# Altium footprint library AB5301A.PcbLib: 18 footprints (part 1 of 2)
Each footprint in its own frame and in the unit in brackets; x right, y up, seen from the top. Pads: shape width x height; smd on the part's side, far side on the other; paste and mask are expansions set on the pad; w line width, h text height; cw(c..) or ccw(c..) is an arc to the next point about the centre after c.
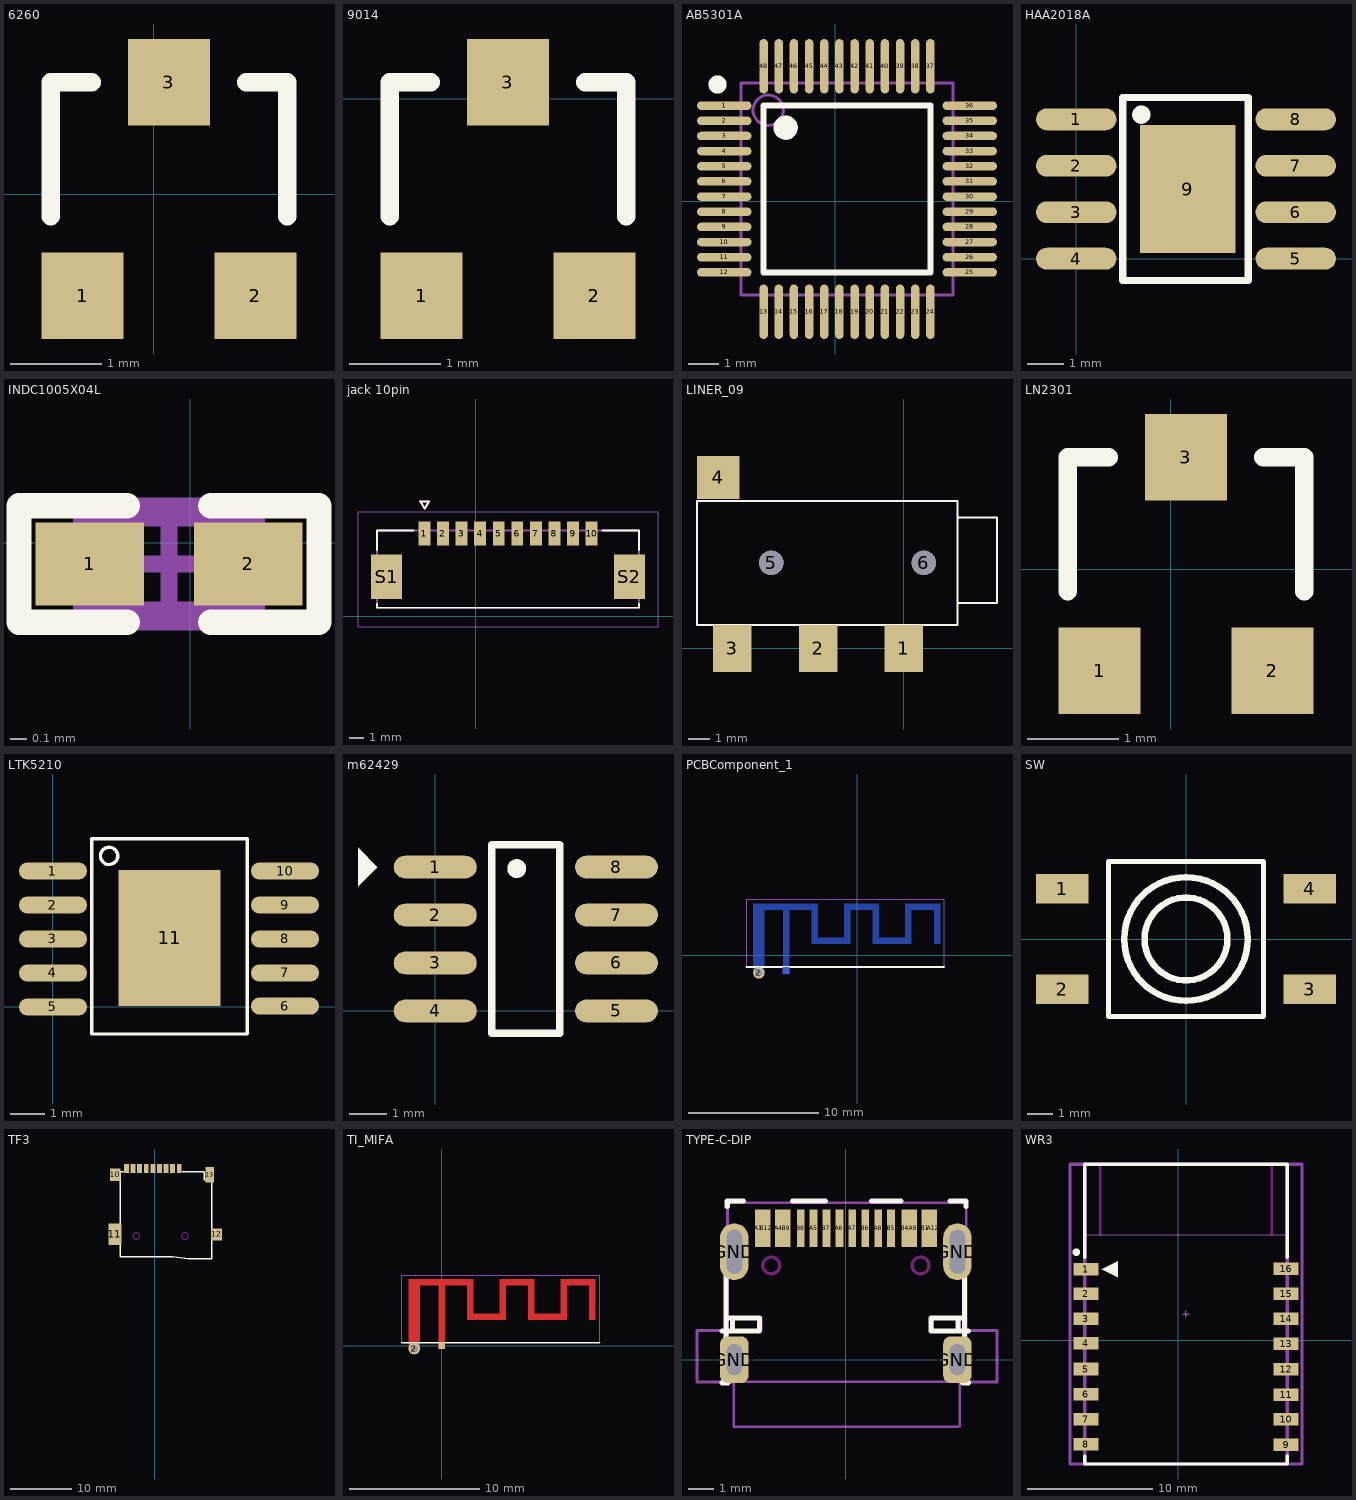
[diagram p0: the footprints below, top view; thin cyan lines are the x and y axes]

## 6260 [mm]
pads (3):
  rect 0.9x0.95 smd: 1(-0.781,-1.12) 2(1.119,-1.12) 3(0.169,1.23)
Top Overlay:
  lines w0.2: -1.131,-0.245 -1.131,1.23 -0.681,1.23 ; 1.019,1.23 1.469,1.23 1.469,-0.245
3D body "SW3DPS-SOT-23-DEFAULT.step": height 1.08, standoff -0.02, extent -1.331,-1.195 1.669,1.305

## 9014 [mm]
pads (3):
  rect 0.9x0.95 smd: 1(-3.261,-2.166) 2(-1.361,-2.166) 3(-2.311,0.184)
Top Overlay:
  lines w0.2: -3.611,-1.291 -3.611,0.184 -3.161,0.184 ; -1.461,0.184 -1.011,0.184 -1.011,-1.291
3D body "SW3DPS-SOT-23-DEFAULT.step": height 1.08, standoff -0.02, extent -3.811,-2.241 -0.811,0.259

## AB5301A [mm]
pads (48):
  oval 1.8x0.28 smd: 1(-3.664,3.156) 2(-3.664,2.656) 3(-3.664,2.156) 4(-3.664,1.656) 5(-3.664,1.156) 6(-3.664,0.656) 7(-3.664,0.156) 8(-3.664,-0.344) 9(-3.664,-0.844) 10(-3.664,-1.344) 11(-3.664,-1.844) 12(-3.664,-2.344) 25(4.436,-2.344) 26(4.436,-1.844) 27(4.436,-1.344) 28(4.436,-0.844) 29(4.436,-0.344) 30(4.436,0.156) 31(4.436,0.656) 32(4.436,1.156) 33(4.436,1.656) 34(4.436,2.156) 35(4.436,2.656) 36(4.436,3.156)
  oval 0.28x1.8 smd: 13(-2.364,-3.644) 14(-1.864,-3.644) 15(-1.364,-3.644) 16(-0.864,-3.644) 17(-0.364,-3.644) 18(0.136,-3.644) 19(0.636,-3.644) 20(1.136,-3.644) 21(1.636,-3.644) 22(2.136,-3.644) 23(2.636,-3.644) 24(3.136,-3.644) 37(3.136,4.456) 38(2.636,4.456) 39(2.136,4.456) 40(1.636,4.456) 41(1.136,4.456) 42(0.636,4.456) 43(0.136,4.456) 44(-0.364,4.456) 45(-0.864,4.456) 46(-1.364,4.456) 47(-1.864,4.456) 48(-2.364,4.456)
Top Overlay:
  circle w0.3: c-3.889,3.856 r0.15
  circle w0.4: c-1.639,2.431 r0.2
  lines w0.2: -2.364,-2.344 -2.364,3.156 3.136,3.156 3.136,-2.344 -2.364,-2.344
Mechanical 13:
  circle w0.1: c-2.214,3.006 r0.5
  lines w0.1: -3.114,-3.094 -3.114,3.906 3.886,3.906 3.886,-3.094 -3.114,-3.094
3D body "User Library-TQFP48.STEP": height 1.1, standoff 0, extent -4.09,-4.091 4.928,4.926

## HAA2018A [mm]
pads (9):
  oval 2.2x0.6 smd: 1(0,3.81) 2(0,2.54) 3(0,1.27) 4(0,0) 5(6,0) 6(6,1.27) 7(6,2.54) 8(6,3.81)
  rect 2.6x3.5 smd: 9(3.048,1.905)
Top Overlay:
  circle w0.25: c1.778,3.937 r0.125
  lines w0.2: 1.27,-0.595 4.699,-0.595 4.699,4.405 1.27,4.405 1.27,-0.595
3D body "User Library-SOIC-8.STEP": height 1.75, standoff 0, extent -0.085,-0.595 5.927,4.405

## INDC1005X04L [mm]
pads (2):
  rect 0.65x0.5 smd: 1(-0.602,-0.127) 2(0.348,-0.127)
Top Overlay:
  lines w0.152: -0.377,-0.477 -1.027,-0.477 -1.027,0.223 -0.377,0.223 ; 0.123,-0.477 0.773,-0.477 0.773,0.223 0.123,0.223
Mechanical 13:
  lines w0.1: -0.652,-0.402 -0.652,0.148 0.398,0.148 0.398,-0.402 -0.652,-0.402
Mechanical 15:
  lines w0.1: -0.402,-0.127 0.148,-0.127 ; -0.127,-0.402 -0.127,0.148 ; -1.027,-0.477 -1.027,0.223 0.773,0.223 0.773,-0.477 -1.027,-0.477
3D body "User Library-Chip Inductor 0402.step": height 0.5, standoff 0, extent -0.627,-0.427 0.373,0.173

## jack 10pin [mm]
pads (12):
  rect 0.8x1.6 smd mask+0: 1(-3.466,5.575) 2(-2.216,5.575) 3(-0.966,5.575) 4(0.284,5.575) 5(1.534,5.575) 6(2.784,5.575) 7(4.034,5.575) 8(5.284,5.575) 9(6.534,5.575) 10(7.784,5.575)
  rect 2.1x3 smd mask+0: S1(-6.016,2.675) S2(10.334,2.675)
Top Overlay:
  lines w0.127: -6.666,0.825 -6.666,0.575 10.984,0.575 10.984,0.825 ; -6.666,4.475 -6.666,5.775 -4.186,5.775 ; 8.504,5.775 10.984,5.775 10.984,4.475 ; -3.754,7.74 -3.154,7.74 -3.454,7.24 -3.754,7.74
Top Solder:
  region: -2.99,4.699 -3.942,4.699 -3.942,6.451 -2.99,6.451
  region: 11.46,1.099 9.208,1.099 9.208,4.251 11.46,4.251
  region: -4.89,1.099 -7.142,1.099 -7.142,4.251 -4.89,4.251
  region: -1.74,4.699 -2.692,4.699 -2.692,6.451 -1.74,6.451
  region: -0.49,4.699 -1.442,4.699 -1.442,6.451 -0.49,6.451
  region: 0.76,4.699 -0.192,4.699 -0.192,6.451 0.76,6.451
  region: 2.01,4.699 1.058,4.699 1.058,6.451 2.01,6.451
  region: 3.26,4.699 2.308,4.699 2.308,6.451 3.26,6.451
  region: 4.51,4.699 3.558,4.699 3.558,6.451 4.51,6.451
  region: 5.76,4.699 4.808,4.699 4.808,6.451 5.76,6.451
  region: 7.01,4.699 6.058,4.699 6.058,6.451 7.01,6.451
  region: 8.26,4.699 7.308,4.699 7.308,6.451 8.26,6.451
Mechanical 13:
  lines w0.127: -6.666,0.575 10.984,0.575 10.984,5.775 -6.666,5.775 -6.666,0.575 ; -3.754,7.74 -3.154,7.74 -3.454,7.24 -3.754,7.74
Mechanical 15:
  lines w0.05: -7.936,-0.695 12.254,-0.695 12.254,7.045 -7.936,7.045 -7.936,-0.695
3D body "532611071--3DModel-STEP-361473.STEP": height 3.4, standoff 0, extent -6.666,0.803 10.984,6.003

## LINER_09 [mm]
height 1.6
pads (6):
  rect 1.8x2.2 smd: 1(0,0) 2(-4,0) 3(-8.025,0)
  rect 2x2 smd: 4(-8.675,8)
  round 1.143 hole 1.143: 5(-6.2,4) 6(0.95,4)
Top Overlay:
  lines w0.1: 2.542,2.116 4.371,2.116 4.371,6.129 2.542,6.129 ; -9.675,1.1 -9.675,6.9 2.525,6.9 2.525,1.1 -9.675,1.1

## LN2301 [mm]
pads (3):
  rect 0.9x0.95 smd: 1(-0.781,-1.12) 2(1.119,-1.12) 3(0.169,1.23)
Top Overlay:
  lines w0.2: -1.131,-0.245 -1.131,1.23 -0.681,1.23 ; 1.019,1.23 1.469,1.23 1.469,-0.245
3D body "SW3DPS-SOT-23-DEFAULT.step": height 1.08, standoff -0.02, extent -1.331,-1.195 1.669,1.305

## LTK5210 [mm]
pads (11):
  oval 2x0.5 smd: 1(0,4) 2(0,3) 3(0,2) 4(0,1) 5(0,0) 6(6.826,0.025) 7(6.826,1) 8(6.826,2) 9(6.826,3) 10(6.826,4)
  rect 3x4 smd: 11(3.429,2.032)
Top Overlay:
  circle w0.1: c1.651,4.445 r0.254
  lines w0.1: 1.143,-0.794 5.715,-0.794 5.715,4.953 1.143,4.953 1.143,-0.794

## m62429 [mm]
pads (8):
  oval 2.2x0.6 smd: 1(0,3.81) 2(0,2.54) 3(0,1.27) 4(0,0) 5(4.8,0) 6(4.8,1.27) 7(4.8,2.54) 8(4.8,3.81)
Top Overlay:
  circle w0.25: c2.159,3.771 r0.125
  region: -2.045,3.302 -1.537,3.81 -2.045,4.318
  lines w0.2: 1.5,-0.595 1.5,4.405 3.3,4.405 3.3,-0.595 1.5,-0.595
3D body "User Library-SOIC-8.STEP": height 1.75, standoff 0, extent -0.53,-0.606 5.482,4.394

## PCBComponent_1 [mil]
pads (2):
  rect 19.68x19.68 smd far side: 1(-215,-45)
  round 35 hole 22: 2(-297.72,-53.07)
Bottom Layer:
  rectangle: -315.4,-54.85 -279.96,138.07
  rectangle: -224.84,-54.84 -205.15,138.07
  rectangle: -315.45,138.07 -118.6,157.76
  rectangle: -138.23,34.14 -118.54,138.07
  rectangle: -118.55,34.13 -39.81,53.82
  region: 251.54,138.07 231.85,138.07 231.85,34.13 251.54,34.13
  region: 66.5,138.07 46.81,138.07 46.81,34.13 66.5,34.13
  rectangle: 66.49,34.14 145.23,53.83
  region: 164.92,138.06 145.24,138.06 145.24,34.12 164.92,34.12
  rectangle: 145.19,138.07 251.49,157.76
  rectangle: -39.83,138.09 66.47,157.77
  region: -20.12,138.07 -39.8,138.07 -39.8,34.13 -20.12,34.13
Top Overlay:
  lines w5: -335.08,-35.24 263.35,-35.24
Top Solder:
  rectangle: -485,-40.01 423,170
Mechanical 1:
  lines w1: -335.08,-35.16 -335.08,169.57 263.35,169.57 263.35,-35.16

## SW [mil]
pads (4):
  rect 80x45 smd: 1(-188.97,76.78) 2(-188.97,-76.78) 3(188.97,-76.78) 4(188.97,76.78)
Top Overlay:
  circle w10: c0,0 r63.25
  circle w10: c0,0 r94.34
  lines w7.87: -118.11,-118.11 -118.11,118.11 118.11,118.11 118.11,-118.11 -118.11,-118.11

## TF3 [mm]
height 1
pads (13):
  rect 0.8x1.5 smd: 1(4.064,65.024) 2(2.978,65.024) 3(1.892,65.024) 4(0.806,65.024) 5(-0.28,65.024) 6(-1.366,65.024) 7(-2.452,65.024) 8(-3.538,65.024) 9(-4.624,65.024)
  rect 1.7x2 smd: 10(-6.424,64.024)
  rect 2.2x3.5 smd: 11(-6.495,54.224)
  rect 1.8x2 smd: 12(10.205,54.224)
  rect 1.4x2.5 smd: 13(9.076,64.024)
Top Overlay:
  lines w0.254: -5.124,64.524 -5.624,64.524 -5.624,50.524 2.376,50.524 cw(c2.376,33.524) 5.561,50.223 ; 4.576,64.524 8.176,64.524 8.176,63.224 9.376,63.224 9.376,50.224 5.563,50.224
Keep-Out Layer:
  lines w0.15: -2.995,53.374 ccw(c-2.995,53.924) -2.995,54.474 ccw(c-2.995,53.924) -2.995,53.374 ; 5.005,53.374 ccw(c5.005,53.924) 5.005,54.474 ccw(c5.005,53.924) 5.005,53.374

## TI_MIFA [mm]
height 1
pads (2):
  rect 0.5x0.5 smd: 1(0,0)
  round 0.889 hole 0.559: 2(-2.101,-0.205)
Top Layer:
  rectangle: -2.55,-0.25 -1.65,4.65
  rectangle: -0.25,-0.25 0.25,4.65
  region: 11.85,4.65 11.35,4.65 11.35,2.01 11.85,2.01
  rectangle: 9.149,4.65 11.849,5.15
  region: 9.65,4.65 9.15,4.65 9.15,2.01 9.65,2.01
  rectangle: 7.15,2.01 9.15,2.51
  region: 7.15,4.65 6.65,4.65 6.65,2.01 7.15,2.01
  rectangle: 4.449,4.65 7.149,5.15
  region: 4.95,4.65 4.45,4.65 4.45,2.01 4.95,2.01
  rectangle: 2.45,2.01 4.45,2.51
  rectangle: 1.95,2.01 2.45,4.65
  rectangle: -2.551,4.65 2.449,5.15
Top Overlay:
  lines w0.127: -3.05,0.248 12.15,0.248
Top Solder:
  rectangle: -6.426,0.229 16.637,5.563
Mechanical 1:
  lines w0.025: -3.05,0.25 -3.05,5.45 12.15,5.45 12.15,0.25

## TYPE-C-DIP [mm]
pads (20):
  rect 0.3x1.45 smd: A1(-3.375,5.095) A4(-2.6,5.095) A5(-1.25,5.095) A6(-0.25,5.095) A7(0.25,5.095) A8(1.25,5.095) A9(2.6,5.095) A12(3.375,5.095) B1(3.075,5.095) B4(2.3,5.095) B5(1.75,5.095) B6(0.75,5.095) B7(-0.75,5.095) B8(-1.75,5.095) B9(-2.3,5.095) B12(-3.075,5.095)
  rrect50% 1.1x1.8 hole 0.6 slot 1.2 at 90 deg: GND(-4.32,0) GND(4.32,0)
  oval 1.1x2.2 hole 0.6 slot 1.7 at 90 deg: GND(-4.32,4.18) GND(4.32,4.18)
Top Overlay:
  lines w0.2: -4.792,-0.889 -4.642,-0.889 ; -4.792,1.111 -4.642,1.111 ; -4.642,1.086 -4.642,4.185 ; -4.642,1.611 -3.342,1.611 -3.342,1.111 -4.642,1.111 ; -4.59,5.941 -4.59,6.14 -3.97,6.14 ; -4.572,-0.889 -4.642,-0.889 ; -4.392,1.111 -4.392,1.611 ; -2.07,6.14 -0.795,6.14 ; 1.005,6.14 2.13,6.14 ; 4.03,6.14 4.65,6.14 4.65,5.941 ; 4.348,1.111 4.348,1.611 ; 4.528,-0.889 4.598,-0.889 ; 4.598,1.086 4.598,4.185 ; 4.598,1.611 3.298,1.611 3.298,1.111 4.598,1.111 ; 4.748,-0.889 4.598,-0.889 ; 4.748,1.111 4.598,1.111 ; -4.642,-0.889 -4.642,1.111 ; 4.598,-0.889 4.598,1.111
Keep-Out Layer:
  circle w0.127: c2.89,3.65 r0.325
  circle w0.127: c-2.89,3.65 r0.325
Mechanical 13:
  lines w0.1: -4.584,6.096 -4.584,1.648 -3.284,1.648 -3.284,1.148 -4.584,1.148 ; -4.336,-2.6 4.35,-2.6 ; -4.334,-2.598 -4.334,-0.852 ; -4.334,-2.535 -4.334,-0.877 -5.764,-0.877 -5.764,1.123 -4.584,1.123 -4.584,6.079 -0.908,6.079 4.656,6.079 4.656,1.123 ; -4.334,1.148 -4.334,1.648 ; 4.406,-2.578 4.406,-0.852 ; 4.406,-2.535 4.406,-0.877 5.836,-0.877 ; 4.406,1.148 4.406,1.648 ; 4.656,6.096 4.656,1.648 3.356,1.648 3.356,1.148 4.656,1.148 ; 4.672,1.123 5.852,1.123 5.852,-0.877 ; -4.584,-0.852 -4.584,1.148 ; -4.584,-0.852 -3.284,-0.852 3.356,-0.852 4.656,-0.852 ; -4.584,-0.852 -4.734,-0.852 -5.464,-0.852 -5.764,-0.852 -5.764,1.148 -5.464,1.148 -4.734,1.148 -4.584,1.148 ; 4.656,-0.852 4.806,-0.852 5.536,-0.852 5.836,-0.852 5.836,1.148 5.536,1.148 4.806,1.148 4.656,1.148 ; 4.656,-0.852 4.656,1.148
3D body: height 3.16, standoff 0.1, extent -4.64,-2.641 4.64,5.72

## WR3 [mm]
pads (16):
  rect 2x1 smd: 1(-7.388,5.679) 2(-7.388,3.709) 3(-7.388,1.709) 4(-7.388,-0.261) 5(-7.388,-2.301) 6(-7.388,-4.311) 7(-7.388,-6.301) 8(-7.388,-8.311) 9(8.612,-8.351) 10(8.612,-6.311) 11(8.612,-4.351) 12(8.612,-2.331) 13(8.612,-0.271) 14(8.612,1.709) 15(8.612,3.729) 16(8.612,5.709)
Top Overlay:
  circle w0.3: c-8.15,7.035 r0.15
  region: -6.118,5.679 -4.848,5.044 -4.848,6.314
  lines w0.254: -7.471,-9.237 -7.471,-9.889 8.696,-9.889 8.696,-9.237 ; -7.471,6.596 -7.471,14.05 8.696,14.05 8.696,6.595
Keep-Out Layer:
  lines w0.203: -6.246,8.431 -6.246,14.076 ; 7.47,8.431 7.47,14.076
Mechanical 13:
  lines w0.051: -7.515,8.407 8.741,8.407 8.741,14.061 -7.515,14.061 -7.515,8.407
  lines w0.254: -7.471,-9.889 -7.471,14.051 8.696,14.051 8.696,-9.889 -7.471,-9.889
  text "ANTENNA AREA" at -7.261,13.553 h0.25
  text "CUTOUT POLYGON" at -7.261,13.045 h0.25
Mechanical 15:
  lines w0.1: 0.358,2.081 0.866,2.081 ; 0.612,1.827 0.612,2.335
  lines w0.254: -8.658,-9.889 9.884,-9.889 9.884,14.051 -8.658,14.051 -8.658,-9.889
3D body "ESP_12_E.STEP": height 2.75, standoff 0.04, extent -7.387,-9.812 8.613,14.188